# Altium schematic symbol library real-time-clock.SchLib: 8 symbols
Pins are listed as number, name and electrical type; pins without a type are passive.

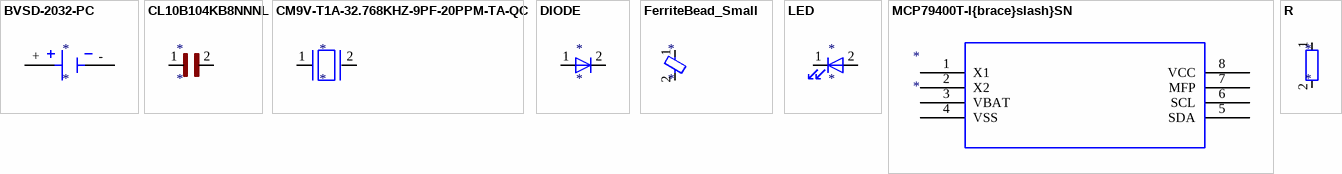
[diagram p0: symbols BVSD-2032-PC to R]

## BVSD-2032-PC
designator *
pins: +, -

## CL10B104KB8NNNL
designator *
pins: 1, 2

## CM9V-T1A-32.768KHZ-9PF-20PPM-TA-QC
designator *
pins: 1, 2

## DIODE
designator *
pins: 1 A, 2 K

## FerriteBead_Small
designator *
pins: 1, 2

## LED
designator *
pins: 1 K, 2 A

## MCP79400T-I{brace}slash}SN
designator *
pins: 1 X1, 2 X2, 3 VBAT, 4 VSS, 5 SDA, 6 SCL, 7 MFP, 8 VCC

## R
designator *
pins: 1, 2